# Altium footprint library PE-68386NLT.PcbLib: 1 footprints
Each footprint in its own frame and in the unit in brackets; x right, y up, seen from the top. Pads: shape width x height; smd on the part's side, far side on the other; paste and mask are expansions set on the pad; w line width, h text height; cw(c..) or ccw(c..) is an arc to the next point about the centre after c.
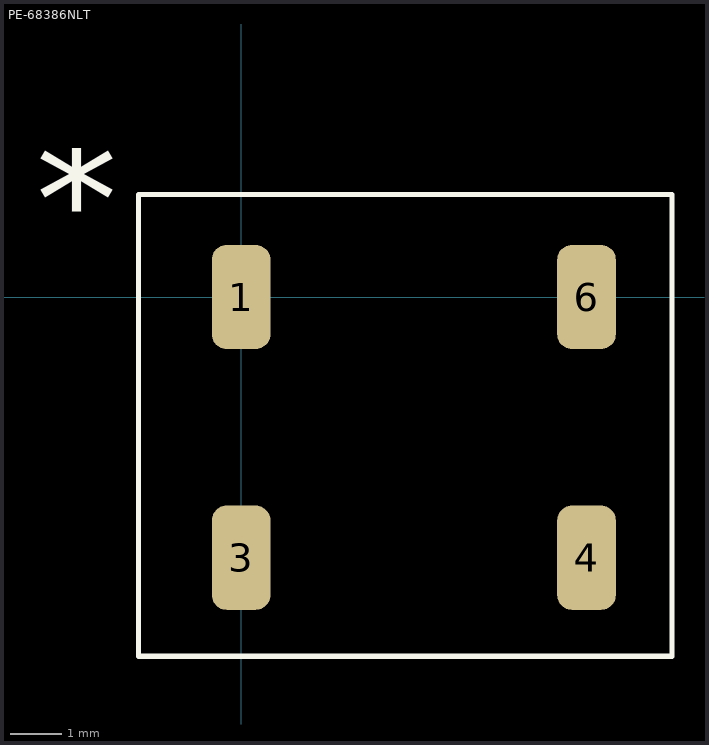
[diagram p0: the footprint, top view; thin cyan lines are the x and y axes]

## PE-68386NLT [mil]
pads (4):
  rrect50% 45x80 smd: 1(0,0) 3(0,-200) 4(265,-200) 6(265,0)
Top Overlay:
  lines w3.94: -78.74,-275.59 -78.74,78.74 330.71,78.74 330.71,-275.59 -78.74,-275.59
  text "*" at -157.48,0 h157.48
3D body: height 98, standoff 0, extent 1.36,-230.92 266.36,34.08